# EAGLE library part TPS61222 (library LX_Eagle_Lib)
TPS61222-EP TI TPS61222 Switching Regulators 5V Boost Converter Case: SOT363 (SC70-6) Datasheet <http://www.ti.com/lit/ds/symlink/tps61222-ep.pdf>
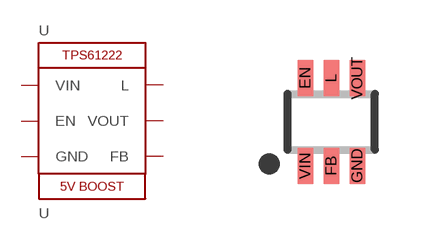
[diagram p0: symbol with the pads of SC-70; footprint SC-70]

Designator prefix U

## TPS61222  [SC-70]
EN  EN
FB  FB
GND  GND
L  L
VIN  VIN
VOUT  VOUT

## Footprint SC-70 (pad centres in mm)
smd 0.39 x 0.91: EN -0.65,1.1; FB 0,-1.1; GND 0.65,-1.1; L 0,1.1; VIN -0.65,-1.1; VOUT 0.65,1.1